# Altium footprint library Kondensator_DIP.PcbLib: 222 footprints (part 7 of 14)
Each footprint in its own frame and in the unit in brackets; x right, y up, seen from the top. Pads: shape width x height; smd on the part's side, far side on the other; paste and mask are expansions set on the pad; w line width, h text height; cw(c..) or ccw(c..) is an arc to the next point about the centre after c.
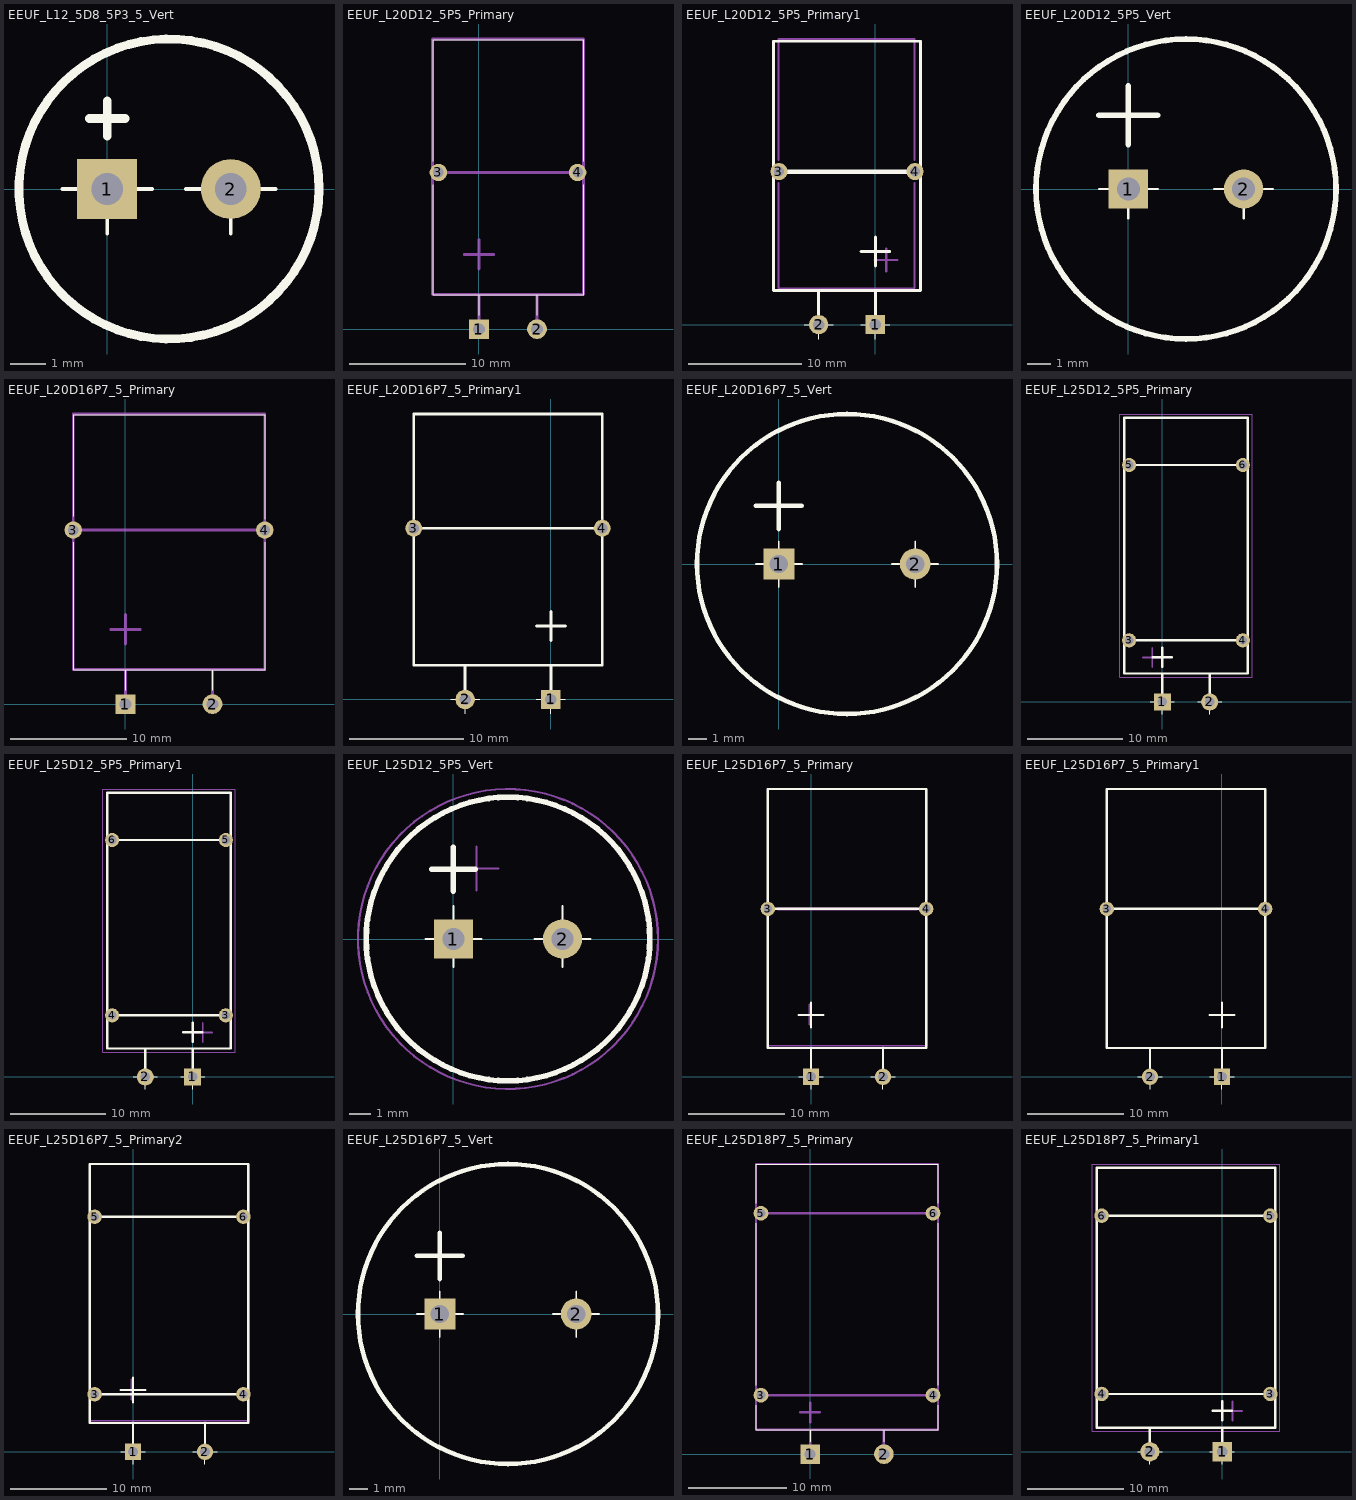
[diagram p6: the footprints below, top view; thin cyan lines are the x and y axes]

## EEUF_L12_5D8_5P3_5_Vert [mm]
pads (2):
  rect 1.7x1.7 hole 0.9: 1(0,0)
  round 1.7 hole 0.9: 2(3.5,0)
Top Overlay:
  circle w0.25: c1.75,0 r4.25
  lines w0.1: -1.27,0 1.27,0 ; 0,-1.27 0,0 ; 2.23,0 4.77,0 ; 3.5,-1.27 3.5,0
  lines w0.254: -0.5,2 0.5,2 ; 0,1.5 0,2.5

## EEUF_L20D12_5P5_Primary [mm]
pads (4):
  rect 1.7x1.7 hole 1: 1(0,0)
  round 1.7 hole 1: 2(5,0)
  round 1.5 hole 0.9: 3(-3.5,13.5) 4(8.5,13.5)
Top Overlay:
  lines w0.1: -3.96,12.45 -3.96,2.95 9.04,2.95 9.04,12.45 ; -3.96,14.45 -3.96,24.95 9.04,24.95 9.04,14.45 ; 0.04,1.2 0.04,2.95 ; 5.04,1.2 5.04,2.95
Mechanical 1:
  lines w0.25: -4,13.5 9,13.5 ; -1.27,6.445 1.27,6.445 ; 0,0 0,3 ; 0,5.175 0,7.715 ; 5,0 5,3 ; 0,3 5,3 ; 0,3 -4,3 -4,25 9,25 9,3 5,3

## EEUF_L20D12_5P5_Primary1 [mm]
pads (4):
  rect 1.7x1.7 hole 1: 1(0,0)
  round 1.7 hole 1: 2(-5,0)
  round 1.5 hole 0.9: 3(-8.5,13.5) 4(3.5,13.5)
Top Overlay:
  lines w0.1: -6.27,0 -3.73,0 ; -5,-1.27 -5,0 ; -1.27,0 1.27,0 ; 0,-1.27 0,0
  lines w0.254: -5,0 -5,3 ; -1.27,6.445 1.27,6.445 ; 0,0 0,3 ; 0,5.175 0,7.715 ; -5,3 0,3 ; -5,3 -9,3 -9,25 4,25 4,3 0,3
  lines w0.4: -9,13.5 4,13.5
Mechanical 1:
  lines w0.15: -8.54,12.5 -8.54,3.2 3.46,3.2 3.46,12.5 ; -8.54,14.5 -8.54,25.2 3.46,25.2 3.46,14.5 ; -5.04,1.2 -5.04,3.2 ; -0.04,1.2 -0.04,3.2
  lines w0.2: -0.04,5.7 1.96,5.7 ; 0.96,4.7 0.96,6.7
  lines w0.3: -7.44,13.5 2.46,13.5

## EEUF_L20D12_5P5_Vert [mm]
pads (2):
  rect 1.7x1.7 hole 1: 1(0,0)
  round 1.7 hole 1: 2(5,0)
Top Overlay:
  circle w0.25: c2.5,0 r6.5
  lines w0.1: -1.27,0 1.27,0 ; 0,-1.27 0,0 ; 3.73,0 6.27,0 ; 5,-1.27 5,0
  lines w0.254: -1.27,3.195 1.27,3.195 ; 0,1.925 0,4.465

## EEUF_L20D16P7_5_Primary [mm]
pads (4):
  rect 1.7x1.7 hole 1: 1(0,0)
  round 1.7 hole 1: 2(7.5,0)
  round 1.5 hole 0.9: 3(-4.5,15) 4(12,15)
Top Overlay:
  lines w0.1: -4.46,13.95 -4.46,2.95 12.04,2.95 12.04,13.95 ; -4.46,16.2 -4.46,24.95 12.04,24.95 12.04,15.95 ; 0.04,1.2 0.04,2.95 ; 7.54,1.2 7.54,2.95
Mechanical 1:
  lines w0.25: -4.5,15 12,15 ; -1.27,6.445 1.27,6.445 ; 0,0 0,3 ; 0,5.175 0,7.715 ; 7.5,0 7.5,3 ; -4.5,3 3.75,3 12,3 12,25 -4.5,25 -4.5,3

## EEUF_L20D16P7_5_Primary1 [mm]
pads (4):
  rect 1.7x1.7 hole 1: 1(0,0)
  round 1.7 hole 1: 2(-7.5,0)
  round 1.5 hole 0.9: 3(-12,15) 4(4.5,15)
Top Overlay:
  lines w0.1: -8.77,0 -6.23,0 ; -7.5,-1.27 -7.5,0 ; -1.27,0 1.27,0 ; 0,-1.27 0,0
  lines w0.25: -12,15 4.5,15 ; -12,3 -3.75,3 4.5,3 4.5,25 -12,25 -12,3
  lines w0.254: -7.5,0 -7.5,3 ; -1.27,6.445 1.27,6.445 ; 0,0 0,3 ; 0,5.175 0,7.715

## EEUF_L20D16P7_5_Vert [mm]
pads (2):
  rect 1.7x1.7 hole 1: 1(0,0)
  round 1.7 hole 1: 2(7.5,0)
Top Overlay:
  circle w0.25: c3.75,0 r8.25
  lines w0.1: -1.27,0 1.27,0 ; 0,-1.27 0,1.25 ; 6.23,0 8.77,0 ; 7.5,-1.27 7.5,1.25
  lines w0.254: -1.27,3.195 1.27,3.195 ; 0,1.925 0,4.465
Mechanical 1:
  circle w0.15: c3.75,0 r8.25
  lines w0.2: -1.27,3.195 1.27,3.195 ; 0,1.925 0,4.465

## EEUF_L25D12_5P5_Primary [mm]
pads (6):
  rect 1.8x1.8 hole 1: 1(0,0)
  round 1.8 hole 1: 2(5,0)
  round 1.5 hole 0.9: 3(-3.5,6.5) 4(8.5,6.5) 5(-3.5,25) 6(8.5,25)
Top Overlay:
  lines w0.1: -1.27,0 1.27,0 ; 0,-1.27 0,0 ; 3.73,0 6.27,0 ; 5,-1.27 5,0
  lines w0.254: -4,6.5 9,6.5 ; -4,25 9,25 ; -1,4.71 1,4.71 ; 0,0 0,3 ; 0,3.71 0,5.71 ; 5,0 5,3 ; -4,3 9,3 9,30 -4,30 -4,3
Mechanical 1:
  lines w0.1: 0,1.78 0,2.62 ; 5,1.78 5,2.62 ; -4.5,2.62 9.5,2.62 9.5,30.38 -4.5,30.38 -4.5,2.62
  lines w0.2: -2.06,4.68 -0.06,4.68 ; -1.06,3.68 -1.06,5.68

## EEUF_L25D12_5P5_Primary1 [mm]
pads (6):
  rect 1.8x1.8 hole 1: 1(0,0)
  round 1.8 hole 1: 2(-5,0)
  round 1.5 hole 0.9: 3(3.5,6.5) 4(-8.5,6.5) 5(3.5,25) 6(-8.5,25)
Top Overlay:
  lines w0.1: -6.27,0 -3.73,0 ; -5,-1.27 -5,0 ; -1.27,0 1.27,0 ; 0,-1.27 0,0
  lines w0.254: -9,6.5 4,6.5 ; -9,25 4,25 ; -5,0 -5,3 ; -1,4.71 1,4.71 ; 0,0 0,3 ; 0,3.71 0,5.71 ; -9,3 4,3 4,30 -9,30 -9,3
Mechanical 1:
  lines w0.1: -5,1.78 -5,2.62 ; 0,1.78 0,2.62 ; -9.5,2.62 4.5,2.62 4.5,30.38 -9.5,30.38 -9.5,2.62
  lines w0.2: 0.06,4.68 2.06,4.68 ; 1.06,3.68 1.06,5.68

## EEUF_L25D12_5P5_Vert [mm]
pads (2):
  rect 1.8x1.8 hole 1: 1(0,0)
  round 1.8 hole 1: 2(5,0)
Top Overlay:
  circle w0.254: c2.5,0 r6.5
  lines w0.1: -1.27,0 1.27,0 ; 0,-1.27 0,1.5 ; 3.73,0 6.27,0 ; 5,-1.27 5,1.5
  lines w0.254: -1,3.2 1,3.2 ; 0,2.2 0,4.2
Mechanical 1:
  circle w0.1: c2.5,0 r6.874
  lines w0.1: 0.06,3.23 2.06,3.23 ; 1.06,2.23 1.06,4.23

## EEUF_L25D16P7_5_Primary [mm]
pads (4):
  rect 1.7x1.7 hole 1: 1(0,0)
  round 1.7 hole 1: 2(7.5,0)
  round 1.5 hole 0.9: 3(-4.5,17.5) 4(12,17.5)
Top Overlay:
  lines w0.1: -1.27,0 1.27,0 ; 0,-1.27 0,0 ; 6.23,0 8.77,0 ; 7.5,-1.27 7.5,0
  lines w0.25: -4.5,17.5 12,17.5 ; -4.5,3 3.75,3 12,3 12,30 -4.5,30 -4.5,3
  lines w0.254: -1.27,6.445 1.27,6.445 ; 0,0 0,3 ; 0,5.175 0,7.715 ; 7.5,0 7.5,3
Mechanical 1:
  lines w0.15: -4.46,16.49 -4.46,3.24 12.04,3.24 12.04,16.49 ; -4.46,18.49 -4.46,29.99 12.04,29.99 12.04,18.49 ; 0.04,1.24 0.04,3.24 ; 7.54,1.24 7.54,3.24
  lines w0.2: -1.16,6.44 0.84,6.44 ; -0.16,5.44 -0.16,7.54
  lines w0.3: -3.46,17.49 11.04,17.49

## EEUF_L25D16P7_5_Primary1 [mm]
pads (4):
  rect 1.7x1.7 hole 1: 1(0,0)
  round 1.7 hole 1: 2(-7.5,0)
  round 1.5 hole 0.9: 3(-12,17.5) 4(4.5,17.5)
Top Overlay:
  lines w0.1: -8.77,0 -6.23,0 ; -7.5,-1.27 -7.5,0 ; -1.27,0 1.27,0 ; 0,-1.27 0,0
  lines w0.25: -12,17.5 4.5,17.5 ; -12,3 -3.75,3 4.5,3 4.5,30 -12,30 -12,3
  lines w0.254: -7.5,0 -7.5,3 ; -1.27,6.445 1.27,6.445 ; 0,0 0,3 ; 0,5.175 0,7.715

## EEUF_L25D16P7_5_Primary2 [mm]
pads (6):
  rect 1.7x1.7 hole 1: 1(0,0)
  round 1.7 hole 1: 2(7.5,0)
  round 1.5 hole 0.9: 3(-4,6) 4(11.5,6) 5(-4,24.5) 6(11.5,24.5)
Top Overlay:
  lines w0.1: -1.27,0 1.27,0 ; 0,-1.27 0,0 ; 6.23,0 8.77,0 ; 7.5,-1.27 7.5,0
  lines w0.25: -4.5,6 12,6 ; -4.5,24.5 12,24.5 ; -4.5,3 3.75,3 12,3 12,30 -4.5,30 -4.5,3
  lines w0.254: -1.27,6.445 1.27,6.445 ; 0,0 0,3 ; 0,5.175 0,7.715 ; 7.5,0 7.5,3
Mechanical 1:
  lines w0.15: -2.46,6 10.04,6 ; -2.46,24.5 10.04,24.5 ; 0.04,1.24 0.04,3.24 ; 7.54,1.24 7.54,3.24 ; -4.46,3.24 12.04,3.24 12.04,29.99 -4.46,29.99 -4.46,3.24
  lines w0.2: -1.16,6.44 0.84,6.44 ; -0.16,5.44 -0.16,7.54

## EEUF_L25D16P7_5_Vert [mm]
pads (2):
  rect 1.7x1.7 hole 1: 1(0,0)
  round 1.7 hole 1: 2(7.5,0)
Top Overlay:
  circle w0.25: c3.75,0 r8.25
  lines w0.1: -1.27,0 1.27,0 ; 0,-1.27 0,1.25 ; 6.23,0 8.77,0 ; 7.5,-1.27 7.5,1.25
  lines w0.254: -1.27,3.195 1.27,3.195 ; 0,1.925 0,4.465

## EEUF_L25D18P7_5_Primary [mm]
pads (6):
  rect 2x2 hole 1.1: 1(0,0)
  round 2 hole 1.1: 2(7.5,0)
  round 1.5 hole 0.9: 3(-5,6) 4(12.5,6) 5(-5,24.5) 6(12.5,24.5)
Top Overlay:
  lines w0.1: -5.46,4.99 -5.46,2.49 13.04,2.49 13.04,4.99 ; -5.46,6.99 -5.46,23.49 ; -5.46,25.49 -5.46,29.49 13.04,29.49 13.04,25.49 ; 0.04,1.24 0.04,2.49 ; 7.54,1.24 7.54,2.49 ; 13.04,6.99 13.04,23.49
Mechanical 1:
  lines w0.25: -5.5,6 13,6 ; -5.5,24.5 13,24.5 ; -5.5,2.5 13,2.5 13,29.5 -5.5,29.5 -5.5,2.5
  lines w0.254: -1,4.25 1,4.25 ; 0,0 0,2.5 ; 0,3.25 0,5.25 ; 7.5,0 7.5,2.5

## EEUF_L25D18P7_5_Primary1 [mm]
pads (6):
  rect 2x2 hole 1.1: 1(0,0)
  round 2 hole 1.1: 2(-7.5,0)
  round 1.5 hole 0.9: 3(5,6) 4(-12.5,6) 5(5,24.5) 6(-12.5,24.5)
Top Overlay:
  lines w0.1: -8.77,0 -6.23,0 ; -7.5,-1.27 -7.5,0 ; -1.27,0 1.27,0 ; 0,-1.27 0,0
  lines w0.25: -13,6 5.5,6 ; -13,24.5 5.5,24.5 ; -13,2.5 5.5,2.5 5.5,29.5 -13,29.5 -13,2.5
  lines w0.254: -7.5,0 -7.5,2.5 ; -1,4.25 1,4.25 ; 0,0 0,2.5 ; 0,3.25 0,5.25
Mechanical 1:
  lines w0.1: -7.5,1.29 -7.5,2.13 ; 0,1.29 0,2.13 ; -13.5,2.13 6,2.13 6,29.87 -13.5,29.87 -13.5,2.13
  lines w0.2: 0.06,4.22 2.06,4.22 ; 1.06,3.22 1.06,5.22